# Altium footprint library Düzenleyici Potansiyometre.PcbLib: 1 footprints
Each footprint in its own frame and in the unit in brackets; x right, y up, seen from the top. Pads: shape width x height; smd on the part's side, far side on the other; paste and mask are expansions set on the pad; w line width, h text height; cw(c..) or ccw(c..) is an arc to the next point about the centre after c.
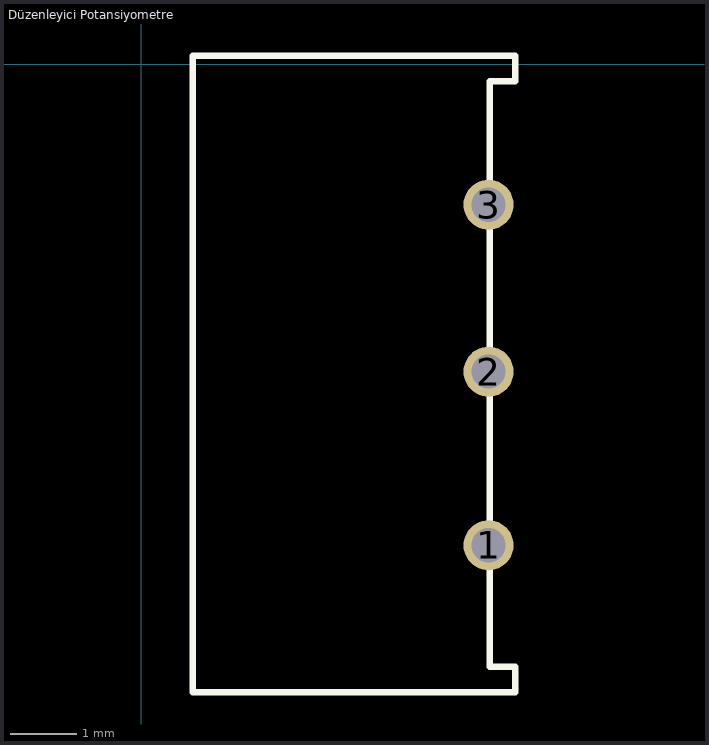
[diagram p0: the footprint, top view; thin cyan lines are the x and y axes]

## Düzenleyici Potansiyometre [mm]
pads (3):
  round 0.75 hole 0.51 mask+0.01: 1(5.2,-7.2) 2(5.2,-4.6) 3(5.2,-2.1)
Top Overlay:
  lines w0.1: 0.77,-9.4 0.77,0.13 5.6,0.13 5.6,-0.25 5.22,-0.25 5.22,-9.02 5.6,-9.02 5.6,-9.4 0.77,-9.4